# Altium schematic symbol library ZC323900.SchLib: 1 symbol
Pins are listed as number, name and electrical type; pins without a type are passive.

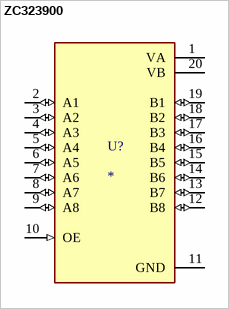
[diagram p0: symbol ZC323900]

## ZC323900
designator U?
TXS0108E 8 Channel Bi-directional Level Conversion Module for Arduino; MF: YKS; MP: ZC323900; SnapEDA_Link: https://www.snapeda.com/parts/ZC323900/YKS/view-part/?ref=snap; Package: None; Value: *; Check_prices: https://www.snapeda.com/parts/ZC323900/YKS/view-part/?ref=eda
footprint MODULE_ZC323900
pins: 1 VA (power), 2 A1 (io), 3 A2 (io), 4 A3 (io), 5 A4 (io), 6 A5 (io), 7 A6 (io), 8 A7 (io), 9 A8 (io), 10 OE (in), 11 GND (power), 12 B8 (io), 13 B7 (io), 14 B6 (io), 15 B5 (io), 16 B4 (io), 17 B3 (io), 18 B2 (io), 19 B1 (io), 20 VB (power)